# EAGLE library part USB (library bb_con-usb)
USB connector with sheild
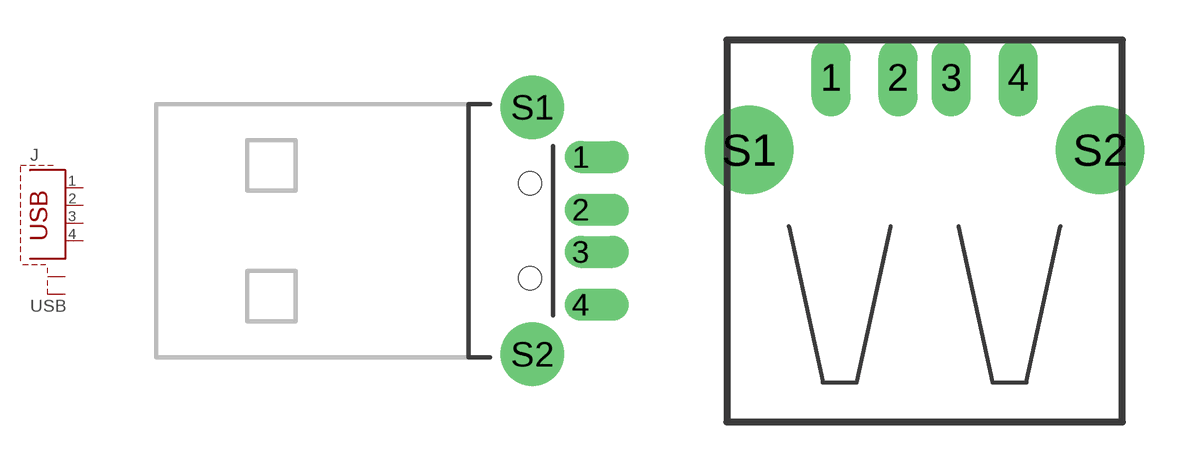
[diagram p0: symbol with the pads of USB-A-HOLE-PLUG; footprints USB-A-HOLE-PLUG, USB-A-HOLE-RECEPT]

Designator prefix J

## USBPLUG-A  [USB-A-HOLE-PLUG]
1  1  pas
2  2  pas
3  3  pas
4  4  pas
S1  S1  pas
S2  S2  pas

## USBRECEPT-A  [USB-A-HOLE-RECEPT]
Pads as for USB-A-HOLE-PLUG

## USBRECEPT-B  [USB-B-HOLE-RECEPT]
Pads as for USB-A-HOLE-PLUG

## Footprint USB-A-HOLE-PLUG (pad centres in mm)
USB connector A type Hole Mounted plug
drill 1 offset: 1 2.3,3.5; 2 2.3,1; 3 2.3,-1; 4 2.3,-3.5
drill 2: S1 0,5.85; S2 0,-5.85
hole 1.1 at -0.1,2.25
hole 1.1 at -0.1,-2.25

## Footprint USB-A-HOLE-RECEPT (pad centres in mm)
USB connector A type Hole Mounted accept
drill 0.95 long: 1 -3.5,2.71; 2 -1,2.71; 3 1,2.71; 4 3.5,2.71
drill 2.3 pad 2.9: S1 -6.57,0; S2 6.57,0

## Footprint USB-B-HOLE-RECEPT (pad centres in mm)
USB connector type b hole mounted recept
drill 0.95 octagon: 1 1.25,4.71; 2 -1.25,4.71; 3 -1.25,2.71; 4 1.25,2.71
drill 2.3 pad 2.9: S1 -6.02,0; S2 6.02,0